# Altium schematic symbol library USBLC6-2.SchLib: 1 symbol
Pins are listed as number, name and electrical type; pins without a type are passive.

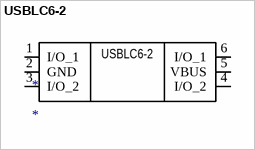
[diagram p0: symbol USBLC6-2]

## USBLC6-2
designator *
Защита интерфейса USB от электростатических разрядов
pins: 1 I/O_1, 2 GND, 3 I/O_2, 4 I/O_2, 5 VBUS, 6 I/O_1